# EAGLE library part TC7USB40MU (library esp32-s2-wroom)
TC7USB40MU Dual SPDT USB Switch The TC7USB40MU is high-speed CMOS dual 1-2 multiplexer/demultiplexer. The low ON-resistance and the low capacitance of the switch allow connections to USB2.0 (480Mbps) application.
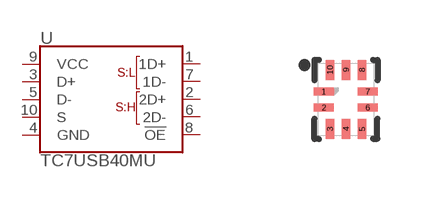
[diagram p1: symbol with the pads of UQFN10; footprint UQFN10]

Designator prefix -

## TC7USB40MU (PROD_ID: IC-15600)  [UQFN10]
1  1D+
2  2D+
3  D+
4  GND
5  D-
6  2D-
7  1D-
8  !OE!
9  VCC
10  S

## Footprint UQFN10 (pad centres in mm)
smd 0.5 x 0.205: 1 -0.555,0.2; 2 -0.552,-0.2; 6 0.54,-0.2; 7 0.54,0.2
smd 0.205 x 0.5: 3 -0.4,-0.74; 4 0,-0.74; 5 0.4,-0.74; 8 0.4,0.74; 9 0,0.743; 10 -0.4,0.743